# Altium schematic symbol library Block_lib.SchLib: 32 symbols
Pins are listed as number, name and electrical type; pins without a type are passive.

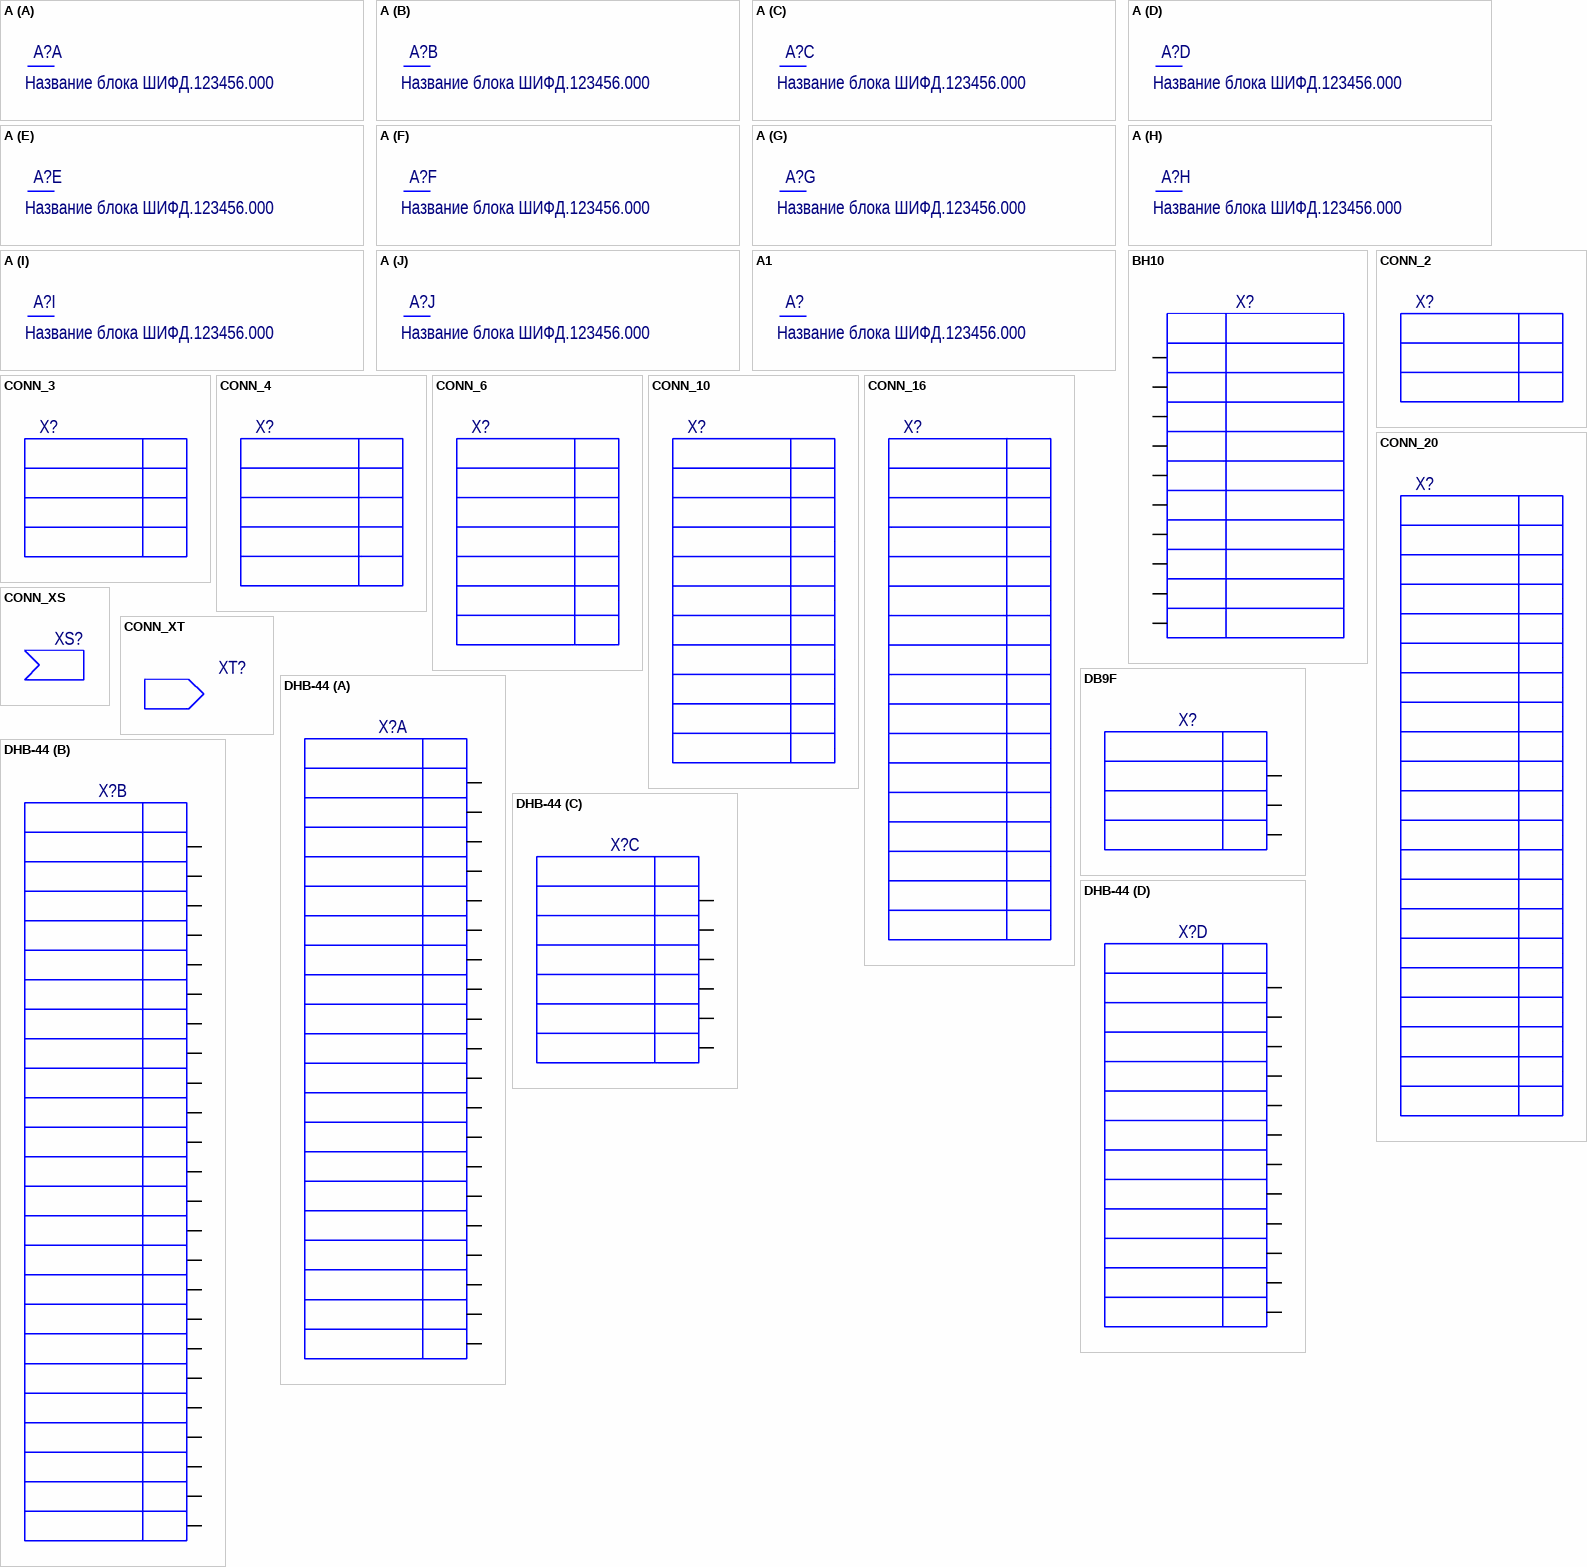
[diagram p0: symbols A to DHB-44]

## A
designator A?  ManufacturerPartNumber: Название блока ШИФД.123456.000  (hidden comment: A)
BCDId: *; Manufacturer: *; TU/GOST: *; Type: *; ValueBOM: *

## A1
designator A?  ManufacturerPartNumber: Название блока ШИФД.123456.000  (hidden comment: A1)
BCDId: *; Manufacturer: *; TU/GOST: *; Type: *; ValueBOM: *

## BH10
designator X?  (value not drawn)
Manufacturer: ф. Ningbo Zhenqin Electronic; ManufacturerPartNumber: BH-10; BCDId: *; TU/GOST: *; Type: Разъём; ValueBOM: *
footprint HDR2X5 (Connector; Header; 5x2 Position)
pins: 1, 2, 3, 4, 5, 6, 7, 8, 9, 10

## CONN_2
designator X?  (value not drawn)
Manufacturer: ф. Ningbo Zhenqin Electronic; ManufacturerPartNumber: DRB- 9FA (DS1037-9F); BCDId: *; TU/GOST: *; Type: Разъём; ValueBOM: *
pins: 1, 2
1 alternate drawing of the same symbol

## CONN_3
designator X?  (value not drawn)
Manufacturer: ф. TE Connectivity; ManufacturerPartNumber: Вилка 1x6 AMPMODU 280372-2; BCDId: *; TU/GOST: *; Type: Разъём; ValueBOM: *
pins: 1, 2, 3
1 alternate drawing of the same symbol

## CONN_4
designator X?  (value not drawn)
Manufacturer: ф. TE Connectivity; ManufacturerPartNumber: Вилка 1x6 AMPMODU 280372-2; BCDId: *; TU/GOST: *; Type: Разъём; ValueBOM: *
pins: 1, 2, 3, 4
1 alternate drawing of the same symbol

## CONN_6
designator X?  (value not drawn)
Manufacturer: ф. TE Connectivity; ManufacturerPartNumber: Вилка 1x6 AMPMODU 280372-2; BCDId: *; TU/GOST: *; Type: Разъём; ValueBOM: *
pins: 1, 2, 3, 4, 5, 6
1 alternate drawing of the same symbol

## CONN_10
designator X?  (value not drawn)
Manufacturer: ф. TE Connectivity; ManufacturerPartNumber: Вилка 1x6 AMPMODU 280372-2; BCDId: *; TU/GOST: *; Type: Разъём; ValueBOM: *
pins: 1, 2, 3, 4, 5, 6, 7, 8, 9, 10
1 alternate drawing of the same symbol

## CONN_16
designator X?  (value not drawn)
Manufacturer: ф. TE Connectivity; ManufacturerPartNumber: Вилка 1x6 AMPMODU 280372-2; BCDId: *; TU/GOST: *; Type: Разъём; ValueBOM: *
pins: 1, 2, 3, 4, 5, 6, 7, 8, 9, 10, 11, 12, 13, 14, 15, 16
4 alternate drawings of the same symbol

## CONN_20
designator X?  (value not drawn)
Manufacturer: ф. TE Connectivity; ManufacturerPartNumber: Вилка 1x6 AMPMODU 280372-2; BCDId: *; TU/GOST: *; Type: Разъём; ValueBOM: *
pins: 1, 2, 3, 4, 5, 6, 7, 8, 9, 10, 11, 12, 13, 14, 15, 16, 17, 18, 19, 20
4 alternate drawings of the same symbol

## CONN_XS
designator XS?  (value not drawn)
Manufacturer: ф. Ningbo Zhenqin Electronic; ManufacturerPartNumber: DRB- 9FA (DS1037-9F); BCDId: *; TU/GOST: *; Type: Разъём; ValueBOM: *

## CONN_XT
designator XT?  (value not drawn)
Manufacturer: ф. Ningbo Zhenqin Electronic; ManufacturerPartNumber: DRB- 9FA (DS1037-9F); BCDId: *; TU/GOST: *; Type: Разъём; ValueBOM: *

## DB9F
designator X?  (value not drawn)
Manufacturer: ф. Ningbo Zhenqin Electronic; ManufacturerPartNumber: DRB- 9FA (DS1037-9F); BCDId: *; TU/GOST: *; Type: Разъём; ValueBOM: *
pins: 2, 3, 5

## DHB-44
designator X?  (value not drawn)
Manufacturer: ф. Ningbo Zhenqin Electronic; BCDId: *; ManufacturerPartNumber: DHB-44; TU/GOST: *; Type: Разъём; ValueBOM: *
part A pins: 1, 2, 3, 4, 5, 6, 7, 8, 9, 10, 11, 12, 13, 14, 15, 16, 17, 18, 19, 20
part B pins: 21, 22, 23, 24, 25, 26, 27, 28, 29, 30, 31, 32, 33, 34, 35, 36, 37, 38, 39, 40, 41, 42, 43, 44
part C pins: 45, 46, 47, 48, 49, 50
part D pins: 51, 52, 53, 54, 55, 56, 57, 58, 59, 60, 61, 62

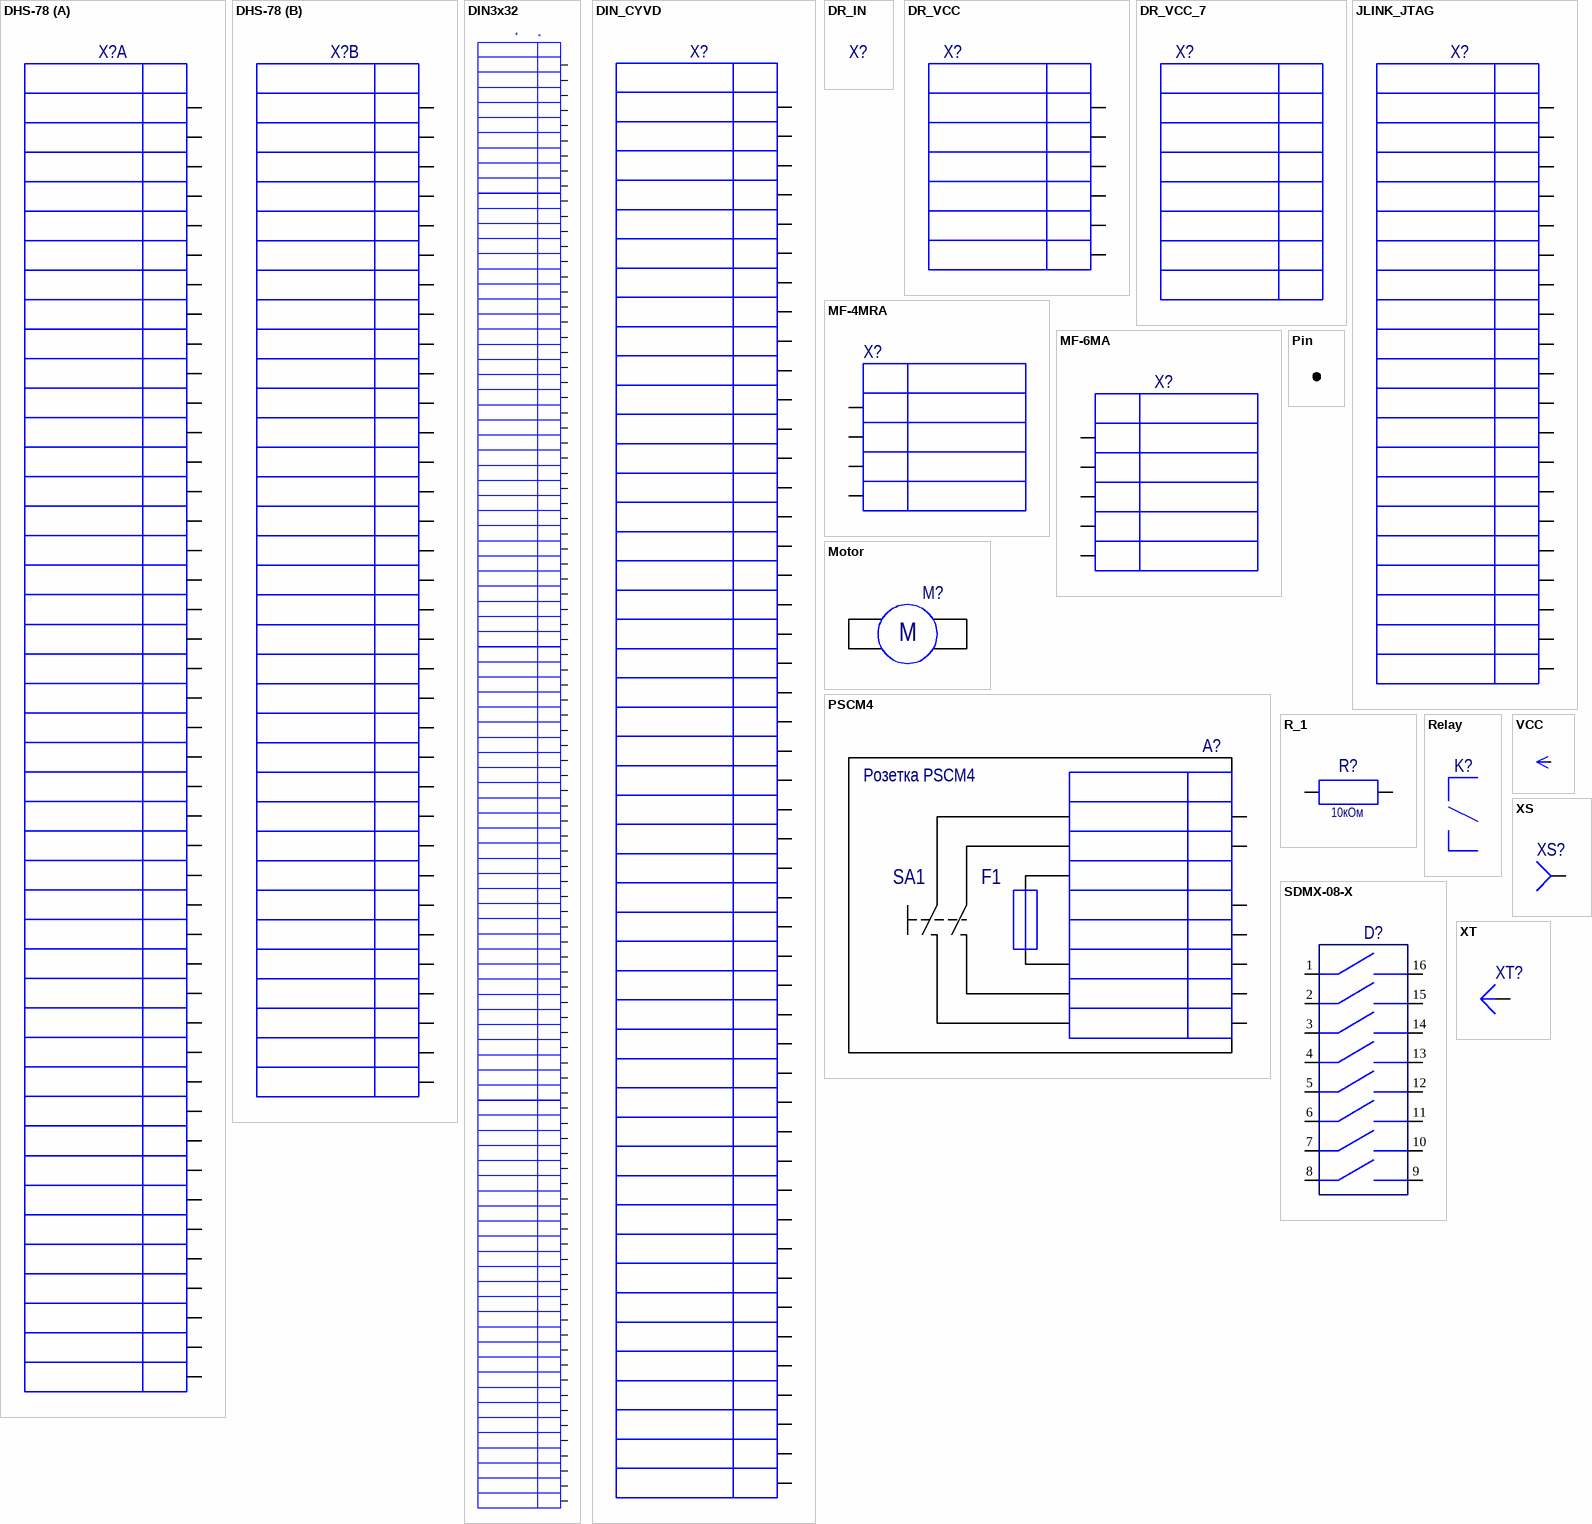
[diagram p1: symbols DHS-78 to XT]

## DHS-78
designator X?  (value not drawn)
Manufacturer: ф. Ningbo Zhenqin Electronic; BCDId: *; ManufacturerPartNumber: DHS-78; TU/GOST: *; Type: Разъём; ValueBOM: *
part A pins: 1, 2, 3, 4, 5, 6, 7, 8, 9, 10, 11, 12, 13, 14, 15, 16, 17, 18, 19, 20, 21, 22, 23, 24, 25, 26, 27, 28, 29, 30, 31, 32, 33, 34, 35, 36, 37, 38, 39, 40, 41, 42, 43, 44
part B pins: 45, 46, 47, 48, 49, 50, 51, 52, 53, 54, 55, 56, 57, 58, 59, 60, 61, 62, 63, 64, 65, 66, 67, 68, 69, 70, 71, 72, 73, 74, 75, 76, 77, 78
1 alternate drawing of the same symbol

## DIN3x32
designator *
pins: 1a, 1b, 1c, 2a, 2b, 2c, 3a, 3b, 3c, 4a, 4b, 4c, 5a, 5b, 5c, 6a, 6b, 6c, 7a, 7b, 7c, 8a, 8b, 8c, 9a, 9b, 9c, 10a, 10b, 10c, 11a, 11b, 11c, 12a, 12b, 12c, 13a, 13b, 13c, 14a, 14b, 14c, 15a, 15b, 15c, 16a, 16b, 16c, 17a, 17b, 17c, 18a, 18b, 18c, 19a, 19b, 19c, 20a, 20b, 20c, 21a, 21b, 21c, 22a, 22b, 22c, 23a, 23b, 23c, 24a, 24b, 24c, 25a, 25b, 25c, 26a, 26b, 26c, 27a, 27b, 27c, 28a, 28b, 28c, 29a, 29b, 29c, 30a, 30b, 30c, 31a, 31b, 31c, 32a, 32b, 32c

## DIN_CYVD
designator X?  (value not drawn)
Manufacturer: ф. Molex Part number 85003-0177; ManufacturerPartNumber: Вилка угловая 3x32; BCDId: *; TU/GOST: *; Type: Разъём; ValueBOM: *
pins: 1a, 1b, 1c, 2a, 2b, 2c, 3a, 3b, 3c, 4a, 4b, 5a, 5b, 5c, 6a, 6b, 6c, 7a, 7b, 7c, 8a, 8b, 8c, 9a, 9b, 9c, 10a, 10b, 10c, 11a, 11b, 11c, 12a, 12c, 13a, 13b, 13c, 14a, 14b, 14c, 15a, 16a, 31a, 31b, 31c, 32a, 32b, 32c

## DR_IN
designator X?  (value not drawn)
Manufacturer: ф. TE Connectivity; ManufacturerPartNumber: Розетка 1x14 AMPMODU 1-102241-2; Otvet: 280372-2; BCDId: *; TU/GOST: *; Type: Разъём; ValueBOM: *

## DR_VCC
designator X?  (value not drawn)
Manufacturer: ф. TE Connectivity; ManufacturerPartNumber: Вилка 1x6 AMPMODU 280372-2; BCDId: *; TU/GOST: *; Type: Разъём; ValueBOM: *
pins: 1, 2, 3, 4, 5, 6
4 alternate drawings of the same symbol

## DR_VCC_7
designator X?  (value not drawn)
Manufacturer: ф. TE Connectivity; ManufacturerPartNumber: Вилка 1x6 AMPMODU 280372-2; BCDId: *; TU/GOST: *; Type: Разъём; ValueBOM: *
pins: 1, 2, 3, 4, 5, 6, 7
4 alternate drawings of the same symbol

## JLINK_JTAG
designator X?  (value not drawn)
Manufacturer: ф. Molex Part number 70247-2054; ManufacturerPartNumber: Вилка угловая 2x10; BCDId: *; TU/GOST: *; Type: Разъём; ValueBOM: *
pins: 1, 2, 3, 4, 5, 6, 7, 8, 9, 10, 11, 12, 13, 14, 15, 16, 17, 18, 19, 20

## MF-4MRA
designator X?  (value not drawn)
ManufacturerPartNumber: Вилка 2x2 MF-4MRA; BCDId: *; Manufacturer: *; TU/GOST: *; Type: Разъём; ValueBOM: *
pins: 1, 2, 3, 4
2 alternate drawings of the same symbol

## MF-6MA
designator X?  (value not drawn)
ManufacturerPartNumber: Вилка 2x3 MF-6MA; BCDId: *; Manufacturer: *; TU/GOST: *; Type: Разъём; ValueBOM: *
pins: 1, 2, 3, 4, 5

## Motor
designator M?, comment M  (value not drawn)
Manufacturer: ф. Ningbo Zhenqin Electronic; ManufacturerPartNumber: DRB- 9FA (DS1037-9F); BCDId: *; TU/GOST: *; Type: Разъём; ValueBOM: *
pins: 1, 2

## Pin
designator ?  (value not drawn)  (graphical)

## PSCM4
designator A?  (value not drawn)
ManufacturerPartNumber: PSCM4  c выключателем и предохранителем; BCDId: *; TU/GOST: *; Type: Розетка сетевая; ValueBOM: *
pins: 1, 2, 3, 4, 5, 6, 7, 8
4 alternate drawings of the same symbol
text: Розетка PSCM4; SA1; F1

## R_1
designator R?  value 10кОм
Manufacturer: ф. Samsung; Name: 0805; Tolerance: 5%; BCDId: *; ManufacturerPartNumber: *; Power/Voltage: *; Rem: *; TKE/TCK: *; TU/GOST: *; Type: Резистор; ValueBOM: *
footprint 6-0805_M (Chip Resistor, Body 2.0x1.2mm, IPC Low Density)
pins: 1, 2

## Relay
designator K?  (value not drawn)  (graphical)
Manufacturer: ф. Ningbo Zhenqin Electronic; ManufacturerPartNumber: DRB- 9FA (DS1037-9F); BCDId: *; TU/GOST: *; Type: Разъём; ValueBOM: *

## SDMX-08-X
designator D?  (value not drawn)
Manufacturer: ф. Bourns; Type: Переключатель; BCDId: *; ManufacturerPartNumber: SDMX-08-X; TU/GOST: *; ValueBOM: *
pins: 1, 2, 3, 4, 5, 6, 7, 8, 9, 10, 11, 12, 13, 14, 15, 16

## VCC
designator ?  (value not drawn)  (graphical)
pins: 0

## XS
designator XS?  (value not drawn)
Manufacturer: ф. Ningbo Zhenqin Electronic; ManufacturerPartNumber: DRB- 9FA (DS1037-9F); BCDId: *; TU/GOST: *; Type: Разъём; ValueBOM: *
pins: 1

## XT
designator XT?  (value not drawn)
Manufacturer: ф. Ningbo Zhenqin Electronic; ManufacturerPartNumber: DRB- 9FA (DS1037-9F); BCDId: *; TU/GOST: *; Type: Разъём; ValueBOM: *
pins: 1